# Altium schematic symbol library Thermoresistor.Schlib: 1 symbol
Pins are listed as number, name and electrical type; pins without a type are passive.

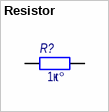
[diagram p0: symbol Resistor]

## Resistor
designator R?, comment 1к
Resistor; Наименование: Резистор; Назначение: SMD-резистор; Потребление, Вт: 0,001; Value: 1к
footprint SMD_0402
footprint SMD_0603
footprint SMD_0805
footprint SMD_1206
footprint SMD_1206-0805
footprint SMD_6332 (Chip Resistor, Body 6.3x3.2mm, IPC High Density)
footprint External_resistor
pins: 1, 2
text: t°